# EAGLE library part ADE9000_ADE9000 (library main)
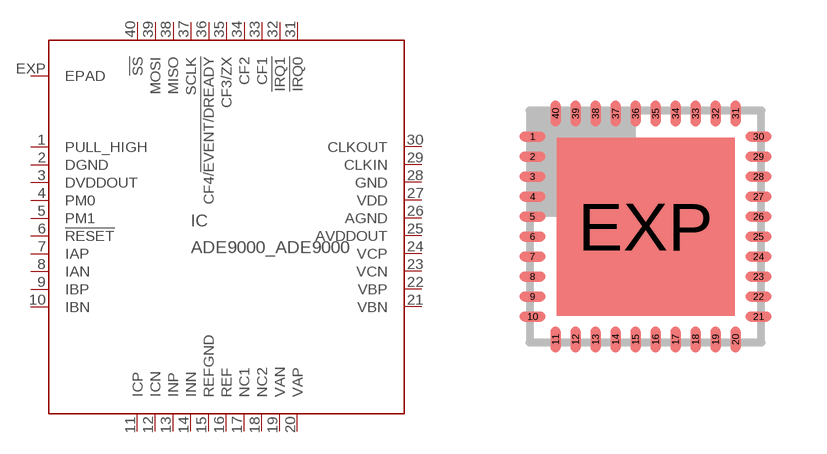
[diagram p1: symbol with the pads of ADE9000_QFN40; footprint ADE9000_QFN40]

Designator prefix IC

## ADE9000_ADE9000  [ADE9000_QFN40]
1  PULL_HIGH  pwr
2  DGND  pwr
3  DVDDOUT  out
4  PM0  in
5  PM1  in
6  !RESET  in
7  IAP  in
8  IAN  in
9  IBP  in
10  IBN  in
11  ICP  in
12  ICN  in
13  INP  in
14  INN
15  REFGND  pwr
16  REF  pwr
17  NC1  nc
18  NC2  nc
19  VAN  in
20  VAP  in
21  VBN  in
22  VBP  in
23  VCN  in
24  VCP  in
25  AVDDOUT  out
26  AGND  pwr
27  VDD  pwr
28  GND  pwr
29  CLKIN  in
30  CLKOUT  out
31  !IRQ0  out
32  !IRQ1  out
33  CF1  out
34  CF2  out
35  CF3/ZX  out
36  CF4/!EVENT/DREADY  out
37  SCLK  in
38  MISO  out
39  MOSI  in
40  !SS  in
EXP  EPAD  pwr

## Footprint ADE9000_QFN40 (pad centres in mm)
QFN40 6x6 mm Source: gennum.lbr QFN40 6x6 (EAGLE 7.6.0)
smd 0.65 x 0.25: 1 -2.825,2.25; 2 -2.825,1.75; 3 -2.825,1.25; 4 -2.825,0.75; 5 -2.825,0.25; 6 -2.825,-0.25; 7 -2.825,-0.75; 8 -2.825,-1.25; 9 -2.825,-1.75; 10 -2.825,-2.25; 21 2.825,-2.25; 22 2.825,-1.75; 23 2.825,-1.25; 24 2.825,-0.75; 25 2.825,-0.25; 26 2.825,0.25; 27 2.825,0.75; 28 2.825,1.25; 29 2.825,1.75; 30 2.825,2.25
smd 0.25 x 0.65: 11 -2.25,-2.825; 12 -1.75,-2.825; 13 -1.25,-2.825; 14 -0.75,-2.825; 15 -0.25,-2.825; 16 0.25,-2.825; 17 0.75,-2.825; 18 1.25,-2.825; 19 1.75,-2.825; 20 2.25,-2.825; 31 2.25,2.825; 32 1.75,2.825; 33 1.25,2.825; 34 0.75,2.825; 35 0.25,2.825; 36 -0.25,2.825; 37 -0.75,2.825; 38 -1.25,2.825; 39 -1.75,2.825; 40 -2.25,2.825
smd 4.45 x 4.45: EXP 0,0